# Altium footprint library TO229P991X239-3_4N.PcbLib: 1 footprints
Each footprint in its own frame and in the unit in brackets; x right, y up, seen from the top. Pads: shape width x height; smd on the part's side, far side on the other; paste and mask are expansions set on the pad; w line width, h text height; cw(c..) or ccw(c..) is an arc to the next point about the centre after c.
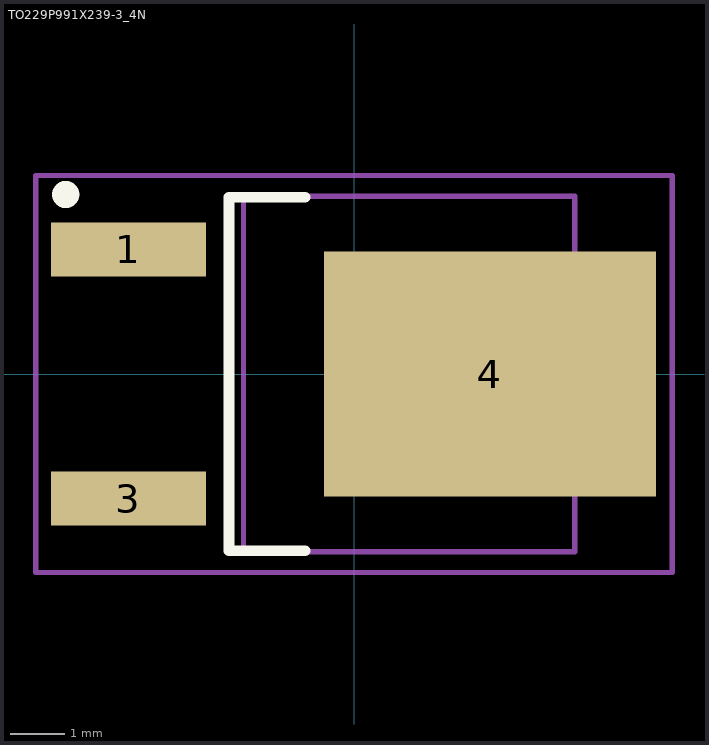
[diagram p0: the footprint, top view; thin cyan lines are the x and y axes]

## TO229P991X239-3_4N [mm] "TO,2.29mm pitch;3 pin,9.905mm L X 6.095mm W X 2.39mm H body"
height 2.39
pads (3):
  rect 2.85x1 smd paste+0 mask+0: 1(-4.15,2.29) 3(-4.15,-2.29)
  rect 6.1x4.5 smd paste+0 mask+0: 4(2.5,0)
Top Overlay:
  circle w0.25: c-5.3,3.3 r0.125
  lines w0.2: -0.9,-3.25 -2.3,-3.25 -2.3,3.25 -0.9,3.25
M3 (ASY_Text_Top):
  text ".DESIGNATOR" at 0,0 h1.2
M13 (CMP_Body_OTL_Top):
  lines w0.1: -2.032,-3.27 -2.032,3.27 4.062,3.27 4.062,-3.27 -2.032,-3.27
M15 (CMP_Courtyard_Top):
  lines w0.1: -0.5,0 0.5,0 ; 0,-0.5 0,0.5 ; -5.85,-3.65 -5.85,3.65 5.85,3.65 5.85,-3.65 -5.85,-3.65
3D body: height 2.4, standoff 0, extent -4.957,-3.27 4.958,3.27